# EAGLE library part 10K (library Micromirror_Ampli_PCB)
tor Networks & Arrays, 10K, 1%, Concave 4 resistors, Mouser : 652-CAT16-1002F4LF
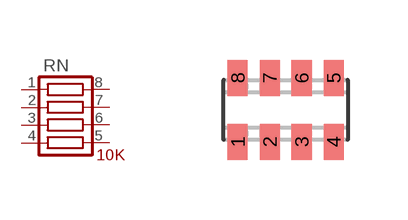
[diagram p6: symbol with the pads of RN1206; footprint RN1206]

Designator prefix RN

## 10K (CASE: 1206; CIRCUIT-TYPE: Isolated; DISTRELEC: 300-37-054; FARNELL: 2321720; MANUFACTURER: Bourns; MOUSER: 652-CAT16-1002F4LF; NUMBER-OF-PINS: 8; NUMBER-OF-RESISTORS: 4; OPERATING-TEMPERATURE: -55°C ~ 125°C; POWER-PER-ELEMENT: 62.5 mW; POWER-TOTAL-PACKAGE: 250 mW; TEMPERATURE-COEFFICIENT: ±200ppm/°C; TOLERANCE: ±1%; VALUE: 10K; VOLTAGE-RATING: 50V)  [RN1206]
1  1  pas
2  2  pas
3  3  pas
4  4  pas
5  5  pas
6  6  pas
7  7  pas
8  8  pas

## Footprint RN1206 (pad centres in mm)
Resistor network, case 1206 (l x p x h / 3.2 x 1.6 x 0.5 mm )
smd 0.5 x 0.9: 1 -1.2,-0.8; 2 -0.4,-0.8; 3 0.4,-0.8; 4 1.2,-0.8; 5 1.2,0.8; 6 0.4,0.8; 7 -0.4,0.8; 8 -1.2,0.8